# Altium integrated library TI Microcontroller MSP430 16-bit Ultra-Low Power.IntLib: 1463 symbols (part 36 of 130)
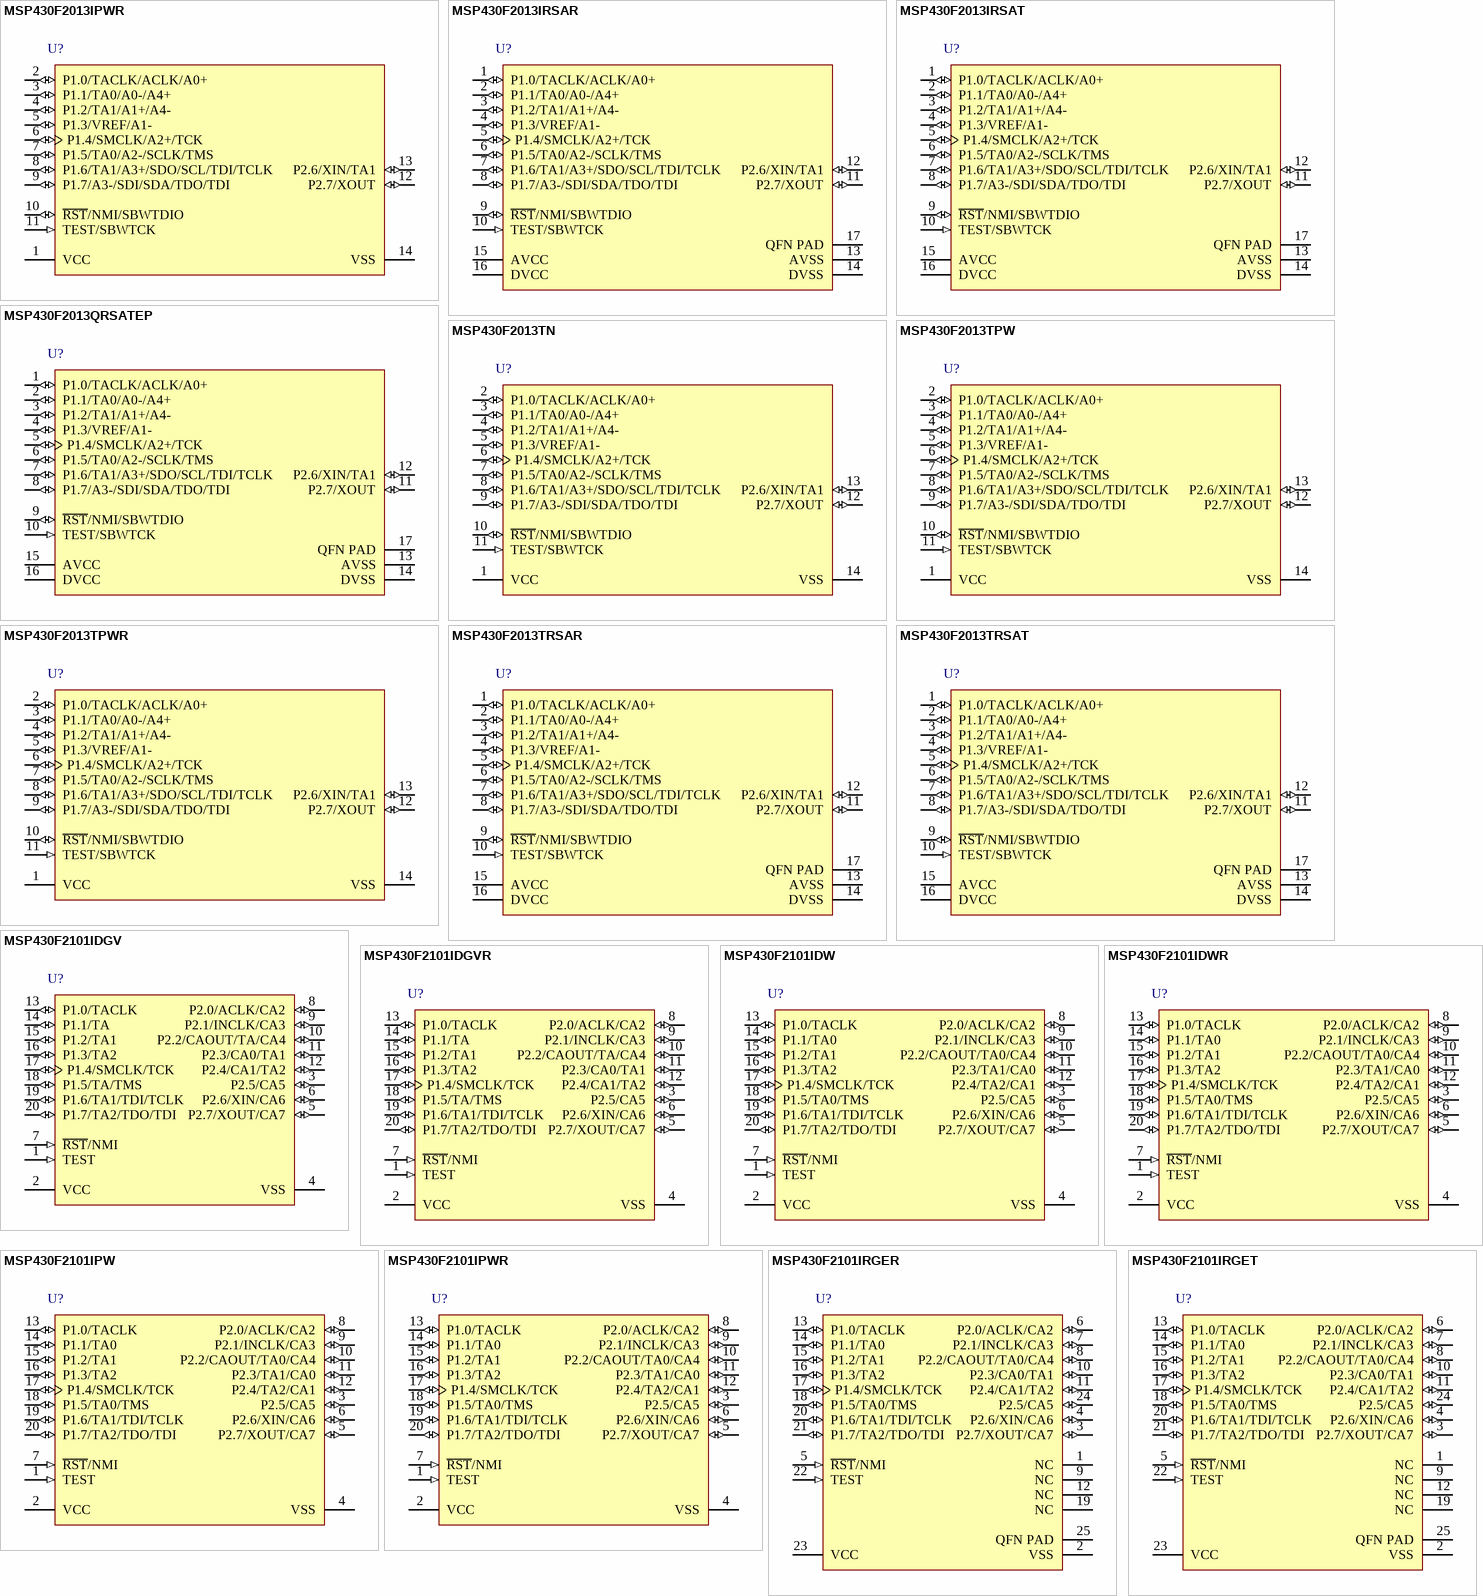
[diagram p354: symbols MSP430F2013IPWR to MSP430F2101IRGET]

## MSP430F2013TRSAT
designator U?
16 MHz Mixed Signal Microcontroller with 2 KB Flash, 128 B SRAM and 10 GPIOs, -40 to 105 degC, 16-pin QFN (RSA), Green (RoHS & no Sb/Br); Manufacturer: Texas Instruments; PartNumber: MSP430F2013TRSAT; ADC: 16-bit Sigma Delta; ADC Channels: 4; Brown Out Reset: Yes; Flash(KB): 2; Frequency(MHz): 16; GPIO: 10; SRAM(B): 128; SubFamily: 2 Series, Extended Temp; Timers - 16-bit: 1; DatasheetVersion: SLAS491H; PackageVersion: 4205141/D; PackageReference: RSA16-2700X2700TP; PackageDescription: 16-Pin Plastic Flat Pack, Body 4.00 x 4.00 mm, Pitch 0.65 mm; Supplier 1: Digi-Key; Supplier Part Number 1: MSP430F2013TRSAR-ND; Supplier 2: Newark; Supplier Part Number 2: 88K5746; Supplier 3: Mouser; Supplier Part Number 3: 595-MSP430F2013TRSAR; Eco-Plan: Green (RoHS & no Sb/Br); Temp Sensor: Yes; Watchdog: Yes; Mounting Technology: Surface Mount; Code_JEDEC: MO-220; ComponentLink1Description: Manufacturer URL; ComponentLink1URL: http://www.ti.com/; ComponentLink2Description: Datasheet; ComponentLink2URL: http://www.ti.com/general/docs/lit/getliterature.tsp?genericPartNumber=MSP430F2013&fileType=pdf; ComponentLink3Description: Package Specification; ComponentLink3URL: http://www.ti.com/litv/pdf/mpqf145c
footprint TI-RSA16-2700X2700TP_N (QFN, 16-Leads, Body 4x4mm, Pitch 0.65mm, Thermal Pad 2.7x2.7mm, IPC Medium Density)
pins: 1 P1.0/TACLK/ACLK/A0+ (io), 2 P1.1/TA0/A0-/A4+ (io), 3 P1.2/TA1/A1+/A4- (io), 4 P1.3/VREF/A1- (io), 5 P1.4/SMCLK/A2+/TCK (io), 6 P1.5/TA0/A2-/SCLK/TMS (io), 7 P1.6/TA1/A3+/SDO/SCL/TDI/TCLK (io), 8 P1.7/A3-/SDI/SDA/TDO/TDI (io), 9 ~{RST}/NMI/SBWTDIO (io), 10 TEST/SBWTCK (in), 11 P2.7/XOUT (io), 12 P2.6/XIN/TA1 (io), 13 AVSS (power) "Analog ground reference", 14 DVSS (power) "Digital ground reference", 15 AVCC (power) "Analog supply voltage", 16 DVCC (power) "Digital supply voltage", 17 QFN PAD (power) "QFN package pad. Connection to VSS is recommended."

## MSP430F2101IDGV
designator U?
16 MHz Mixed Signal Microcontroller with 1 KB Flash, 128 B SRAM and 16 GPIOs, -40 to 85 degC, 20-pin SOP (DGV), Green (RoHS & no Sb/Br); Manufacturer: Texas Instruments; PartNumber: MSP430F2101IDGV; ADC: Slope; Brown Out Reset: Yes; Flash(KB): 1; Frequency(MHz): 16; SRAM(B): 128; SubFamily: 2 Series, Extended Temp; DatasheetVersion: SLAS439F; PackageVersion: 4073251/E; PackageReference: DGV20; PackageDescription: 20-Pin Plastic Small Outline, Body 4.4 x 5 mm, Pitch 0.4 mm; Supplier 1: Digi-Key; Supplier Part Number 1: 296-19706-2-ND; Supplier 2: Digi-Key; Supplier Part Number 2: 296-19706-1-ND; Supplier 3: Digi-Key; Supplier Part Number 3: 296-19706-6-ND; Supplier 4: Farnell; Supplier Part Number 4: 1537184; Supplier 5: Newark; Supplier Part Number 5: 85K1076; Supplier 6: Mouser; Supplier Part Number 6: 595-MSP430F2013TRSAT; Comparators: Yes; Eco-Plan: Green (RoHS & no Sb/Br); GPIO: 16; Timers - 16-bit: 1; Watchdog: Yes; Mounting Technology: Surface Mount; Code_JEDEC: MO-194; ComponentLink1Description: Manufacturer URL; ComponentLink1URL: http://www.ti.com/; ComponentLink2Description: Datasheet; ComponentLink2URL: http://www.ti.com/general/docs/lit/getliterature.tsp?genericPartNumber=MSP430F2101&fileType=pdf; ComponentLink3Description: Package Specification; ComponentLink3URL: http://www.ti.com/lit/ml/mpds006c/mpds006c.pdf
footprint TI-DGV20_N (SOP, 20-Leads, Body 5x4.4mm, Pitch 0.4mm, IPC Medium Density)
pins: 1 TEST (in) "Selects test mode for JTAG pins on Port1. The device protection fuse is connected to TEST.", 2 VCC (power) "Supply voltage", 3 P2.5/CA5 (io), 4 VSS (power) "Ground reference", 5 P2.7/XOUT/CA7 (io), 6 P2.6/XIN/CA6 (io), 7 ~{RST}/NMI (in), 8 P2.0/ACLK/CA2 (io), 9 P2.1/INCLK/CA3 (io), 10 P2.2/CAOUT/TA/CA4 (io), 11 P2.3/CA0/TA1 (io), 12 P2.4/CA1/TA2 (io), 13 P1.0/TACLK (io), 14 P1.1/TA (io), 15 P1.2/TA1 (io), 16 P1.3/TA2 (io), 17 P1.4/SMCLK/TCK (io), 18 P1.5/TA/TMS (io), 19 P1.6/TA1/TDI/TCLK (io), 20 P1.7/TA2/TDO/TDI (io)

## MSP430F2101IDGVR
designator U?
16 MHz Mixed Signal Microcontroller with 1 KB Flash, 128 B SRAM and 16 GPIOs, -40 to 85 degC, 20-pin SOP (DGV), Green (RoHS & no Sb/Br); Manufacturer: Texas Instruments; PartNumber: MSP430F2101IDGVR; ADC: Slope; Brown Out Reset: Yes; Flash(KB): 1; Frequency(MHz): 16; SRAM(B): 128; SubFamily: 2 Series, Extended Temp; DatasheetVersion: SLAS439F; PackageVersion: 4073251/E; PackageReference: DGV20; PackageDescription: 20-Pin Plastic Small Outline, Body 4.4 x 5 mm, Pitch 0.4 mm; Supplier 1: Digi-Key; Supplier Part Number 1: 296-18104-ND; Supplier 2: Farnell; Supplier Part Number 2: 1753256; Supplier 3: Newark; Supplier Part Number 3: 93R5520; Supplier 4: Mouser; Supplier Part Number 4: 595-MSP430F2101IDGV; Comparators: Yes; Eco-Plan: Green (RoHS & no Sb/Br); GPIO: 16; Timers - 16-bit: 1; Watchdog: Yes; Mounting Technology: Surface Mount; Code_JEDEC: MO-194; ComponentLink1Description: Manufacturer URL; ComponentLink1URL: http://www.ti.com/; ComponentLink2Description: Datasheet; ComponentLink2URL: http://www.ti.com/general/docs/lit/getliterature.tsp?genericPartNumber=MSP430F2101&fileType=pdf; ComponentLink3Description: Package Specification; ComponentLink3URL: http://www.ti.com/lit/ml/mpds006c/mpds006c.pdf
footprint TI-DGV20_N (SOP, 20-Leads, Body 5x4.4mm, Pitch 0.4mm, IPC Medium Density)
pins: 1 TEST (in) "Selects test mode for JTAG pins on Port1. The device protection fuse is connected to TEST.", 2 VCC (power) "Supply voltage", 3 P2.5/CA5 (io), 4 VSS (power) "Ground reference", 5 P2.7/XOUT/CA7 (io), 6 P2.6/XIN/CA6 (io), 7 ~{RST}/NMI (in), 8 P2.0/ACLK/CA2 (io), 9 P2.1/INCLK/CA3 (io), 10 P2.2/CAOUT/TA/CA4 (io), 11 P2.3/CA0/TA1 (io), 12 P2.4/CA1/TA2 (io), 13 P1.0/TACLK (io), 14 P1.1/TA (io), 15 P1.2/TA1 (io), 16 P1.3/TA2 (io), 17 P1.4/SMCLK/TCK (io), 18 P1.5/TA/TMS (io), 19 P1.6/TA1/TDI/TCLK (io), 20 P1.7/TA2/TDO/TDI (io)

## MSP430F2101IDW
designator U?
16 MHz Mixed Signal Microcontroller with 1 KB Flash, 128 B SRAM and 16 GPIOs, -40 to 85 degC, 20-pin SOIC (DW), Green (RoHS & no Sb/Br); Manufacturer: Texas Instruments; PartNumber: MSP430F2101IDW; ADC: Slope; Brown Out Reset: Yes; Flash(KB): 1; Frequency(MHz): 16; SRAM(B): 128; SubFamily: 2 Series, Extended Temp; DatasheetVersion: SLAS439F; PackageVersion: 4040000-4/G; PackageReference: DW20; PackageDescription: 20-Pin Plastic Small Outline, Body 12.8 x 7.5 mm, Pitch 1.27 mm; Supplier 1: Digi-Key; Supplier Part Number 1: MSP430F2101IDGVR-ND; Supplier 2: Newark; Supplier Part Number 2: 43K4006; Supplier 3: Mouser; Supplier Part Number 3: 595-MSP430F2101IDGVR; Comparators: Yes; Eco-Plan: Green (RoHS & no Sb/Br); GPIO: 16; Timers - 16-bit: 1; Watchdog: Yes; Mounting Technology: Surface Mount; Code_JEDEC: MO-013; ComponentLink1Description: Manufacturer URL; ComponentLink1URL: http://www.ti.com/; ComponentLink2Description: Datasheet; ComponentLink2URL: http://www.ti.com/general/docs/lit/getliterature.tsp?genericPartNumber=MSP430F2101&fileType=pdf; ComponentLink3Description: Package Specification; ComponentLink3URL: http://www.ti.com/lit/ml/mpds173a/mpds173a.pdf
footprint TI-DW20_N (SOIC, 20-Leads, Body 12.8x7.5mm, Pitch 1.27mm, IPC Medium Density)
pins: 1 TEST (in) "Selects test mode for JTAG pins on Port1. The device protection fuse is connected to TEST.", 2 VCC (power) "Supply voltage", 3 P2.5/CA5 (io), 4 VSS (power) "Ground reference", 5 P2.7/XOUT/CA7 (io), 6 P2.6/XIN/CA6 (io), 7 ~{RST}/NMI (in), 8 P2.0/ACLK/CA2 (io), 9 P2.1/INCLK/CA3 (io), 10 P2.2/CAOUT/TA0/CA4 (io), 11 P2.3/TA1/CA0 (io), 12 P2.4/TA2/CA1 (io), 13 P1.0/TACLK (io), 14 P1.1/TA0 (io), 15 P1.2/TA1 (io), 16 P1.3/TA2 (io), 17 P1.4/SMCLK/TCK (io), 18 P1.5/TA0/TMS (io), 19 P1.6/TA1/TDI/TCLK (io), 20 P1.7/TA2/TDO/TDI (io)

## MSP430F2101IDWR
designator U?
16 MHz Mixed Signal Microcontroller with 1 KB Flash, 128 B SRAM and 16 GPIOs, -40 to 85 degC, 20-pin SOIC (DW), Green (RoHS & no Sb/Br); Manufacturer: Texas Instruments; PartNumber: MSP430F2101IDWR; ADC: Slope; Brown Out Reset: Yes; Flash(KB): 1; Frequency(MHz): 16; SRAM(B): 128; SubFamily: 2 Series, Extended Temp; DatasheetVersion: SLAS439F; PackageVersion: 4040000-4/G; PackageReference: DW20; PackageDescription: 20-Pin Plastic Small Outline, Body 12.8 x 7.5 mm, Pitch 1.27 mm; Supplier 1: Digi-Key; Supplier Part Number 1: 296-33417-5-ND; Supplier 2: Farnell; Supplier Part Number 2: 1753257; Supplier 3: Newark; Supplier Part Number 3: 93R5521; Supplier 4: Mouser; Supplier Part Number 4: 595-MSP430F2101IDW; Comparators: Yes; Eco-Plan: Green (RoHS & no Sb/Br); GPIO: 16; Timers - 16-bit: 1; Watchdog: Yes; Mounting Technology: Surface Mount; Code_JEDEC: MO-013; ComponentLink1Description: Manufacturer URL; ComponentLink1URL: http://www.ti.com/; ComponentLink2Description: Datasheet; ComponentLink2URL: http://www.ti.com/general/docs/lit/getliterature.tsp?genericPartNumber=MSP430F2101&fileType=pdf; ComponentLink3Description: Package Specification; ComponentLink3URL: http://www.ti.com/lit/ml/mpds173a/mpds173a.pdf
footprint TI-DW20_N (SOIC, 20-Leads, Body 12.8x7.5mm, Pitch 1.27mm, IPC Medium Density)
pins: 1 TEST (in) "Selects test mode for JTAG pins on Port1. The device protection fuse is connected to TEST.", 2 VCC (power) "Supply voltage", 3 P2.5/CA5 (io), 4 VSS (power) "Ground reference", 5 P2.7/XOUT/CA7 (io), 6 P2.6/XIN/CA6 (io), 7 ~{RST}/NMI (in), 8 P2.0/ACLK/CA2 (io), 9 P2.1/INCLK/CA3 (io), 10 P2.2/CAOUT/TA0/CA4 (io), 11 P2.3/TA1/CA0 (io), 12 P2.4/TA2/CA1 (io), 13 P1.0/TACLK (io), 14 P1.1/TA0 (io), 15 P1.2/TA1 (io), 16 P1.3/TA2 (io), 17 P1.4/SMCLK/TCK (io), 18 P1.5/TA0/TMS (io), 19 P1.6/TA1/TDI/TCLK (io), 20 P1.7/TA2/TDO/TDI (io)

## MSP430F2101IPW
designator U?
16 MHz Mixed Signal Microcontroller with 1 KB Flash, 128 B SRAM and 16 GPIOs, -40 to 85 degC, 20-pin SOP (PW), Green (RoHS & no Sb/Br); Manufacturer: Texas Instruments; PartNumber: MSP430F2101IPW; ADC: Slope; Brown Out Reset: Yes; Flash(KB): 1; Frequency(MHz): 16; SRAM(B): 128; SubFamily: 2 Series, Extended Temp; DatasheetVersion: SLAS439F; PackageVersion: 4040064-5/G; PackageReference: PW20; PackageDescription: 20-Pin Plastic Small Outline, Body 6.5 x 4.4 mm, 0.65 mm Pitch; Supplier 1: Digi-Key; Supplier Part Number 1: 296-18105-2-ND; Supplier 2: Digi-Key; Supplier Part Number 2: 296-18105-1-ND; Supplier 3: Digi-Key; Supplier Part Number 3: 296-18105-6-ND; Supplier 4: Farnell; Supplier Part Number 4: 1847441; Supplier 5: Newark; Supplier Part Number 5: 82R7743; Supplier 6: Newark; Supplier Part Number 6: 43K4008; Supplier 7: Mouser; Supplier Part Number 7: 595-MSP430F2101IDWR; Comparators: Yes; Eco-Plan: Green (RoHS & no Sb/Br); GPIO: 16; Timers - 16-bit: 1; Watchdog: Yes; Mounting Technology: Surface Mount; Code_JEDEC: MO-153; ComponentLink1Description: Manufacturer URL; ComponentLink1URL: http://www.ti.com/; ComponentLink2Description: Datasheet; ComponentLink2URL: http://www.ti.com/general/docs/lit/getliterature.tsp?genericPartNumber=MSP430F2101&fileType=pdf; ComponentLink3Description: Package Specification; ComponentLink3URL: http://www.ti.com.cn/cn/lit/ml/mpds362/mpds362.pdf
footprint TI-PW20_N (SOP, 20-Leads, Body 6.5x4.4mm, Pitch 0.65mm, IPC Medium Density)
pins: 1 TEST (in) "Selects test mode for JTAG pins on Port1. The device protection fuse is connected to TEST.", 2 VCC (power) "Supply voltage", 3 P2.5/CA5 (io), 4 VSS (power) "Ground reference", 5 P2.7/XOUT/CA7 (io), 6 P2.6/XIN/CA6 (io), 7 ~{RST}/NMI (in), 8 P2.0/ACLK/CA2 (io), 9 P2.1/INCLK/CA3 (io), 10 P2.2/CAOUT/TA0/CA4 (io), 11 P2.3/TA1/CA0 (io), 12 P2.4/TA2/CA1 (io), 13 P1.0/TACLK (io), 14 P1.1/TA0 (io), 15 P1.2/TA1 (io), 16 P1.3/TA2 (io), 17 P1.4/SMCLK/TCK (io), 18 P1.5/TA0/TMS (io), 19 P1.6/TA1/TDI/TCLK (io), 20 P1.7/TA2/TDO/TDI (io)

## MSP430F2101IPWR
designator U?
16 MHz Mixed Signal Microcontroller with 1 KB Flash, 128 B SRAM and 16 GPIOs, -40 to 85 degC, 20-pin SOP (PW), Green (RoHS & no Sb/Br); Manufacturer: Texas Instruments; PartNumber: MSP430F2101IPWR; ADC: Slope; Brown Out Reset: Yes; Flash(KB): 1; Frequency(MHz): 16; SRAM(B): 128; SubFamily: 2 Series, Extended Temp; DatasheetVersion: SLAS439F; PackageVersion: 4040064-5/G; PackageReference: PW20; PackageDescription: 20-Pin Plastic Small Outline, Body 6.5 x 4.4 mm, 0.65 mm Pitch; Supplier 1: Digi-Key; Supplier Part Number 1: 296-25476-5-ND; Supplier 2: Farnell; Supplier Part Number 2: 1649407; Supplier 3: Newark; Supplier Part Number 3: 43K4009; Supplier 4: Mouser; Supplier Part Number 4: 595-MSP430F2101IPW; Comparators: Yes; Eco-Plan: Green (RoHS & no Sb/Br); GPIO: 16; Timers - 16-bit: 1; Watchdog: Yes; Mounting Technology: Surface Mount; Code_JEDEC: MO-153; ComponentLink1Description: Manufacturer URL; ComponentLink1URL: http://www.ti.com/; ComponentLink2Description: Datasheet; ComponentLink2URL: http://www.ti.com/general/docs/lit/getliterature.tsp?genericPartNumber=MSP430F2101&fileType=pdf; ComponentLink3Description: Package Specification; ComponentLink3URL: http://www.ti.com.cn/cn/lit/ml/mpds362/mpds362.pdf
footprint TI-PW20_N (SOP, 20-Leads, Body 6.5x4.4mm, Pitch 0.65mm, IPC Medium Density)
pins: 1 TEST (in) "Selects test mode for JTAG pins on Port1. The device protection fuse is connected to TEST.", 2 VCC (power) "Supply voltage", 3 P2.5/CA5 (io), 4 VSS (power) "Ground reference", 5 P2.7/XOUT/CA7 (io), 6 P2.6/XIN/CA6 (io), 7 ~{RST}/NMI (in), 8 P2.0/ACLK/CA2 (io), 9 P2.1/INCLK/CA3 (io), 10 P2.2/CAOUT/TA0/CA4 (io), 11 P2.3/TA1/CA0 (io), 12 P2.4/TA2/CA1 (io), 13 P1.0/TACLK (io), 14 P1.1/TA0 (io), 15 P1.2/TA1 (io), 16 P1.3/TA2 (io), 17 P1.4/SMCLK/TCK (io), 18 P1.5/TA0/TMS (io), 19 P1.6/TA1/TDI/TCLK (io), 20 P1.7/TA2/TDO/TDI (io)

## MSP430F2101IRGER
designator U?
16 MHz Mixed Signal Microcontroller with 1 KB Flash, 128 B SRAM and 16 GPIOs, -40 to 85 degC, 24-pin QFN (RGE), Green (RoHS & no Sb/Br); Manufacturer: Texas Instruments; PartNumber: MSP430F2101IRGER; ADC: Slope; Brown Out Reset: Yes; Flash(KB): 1; Frequency(MHz): 16; SRAM(B): 128; SubFamily: 2 Series, Extended Temp; DatasheetVersion: SLAS439F; PackageVersion: 4204104/G; PackageReference: RGE24-2450X2450TP; PackageDescription: 24-Pin Plastic Flat Pack, Body 4 x 4 mm, 0.5 mm Pitch; Supplier 1: Digi-Key; Supplier Part Number 1: 296-18106-2-ND; Supplier 2: Digi-Key; Supplier Part Number 2: 296-18106-1-ND; Supplier 3: Digi-Key; Supplier Part Number 3: 296-18106-6-ND; Supplier 4: Newark; Supplier Part Number 4: 43K4010; Supplier 5: Mouser; Supplier Part Number 5: 595-MSP430F2101IPWR; Comparators: Yes; Eco-Plan: Green (RoHS & no Sb/Br); GPIO: 16; Timers - 16-bit: 1; Watchdog: Yes; Mounting Technology: Surface Mount; Code_JEDEC: MO-220; ComponentLink1Description: Manufacturer URL; ComponentLink1URL: http://www.ti.com/; ComponentLink2Description: Datasheet; ComponentLink2URL: http://www.ti.com/general/docs/lit/getliterature.tsp?genericPartNumber=MSP430F2101&fileType=pdf; ComponentLink3Description: Package Specification; ComponentLink3URL: http://www.ti.com/litv/pdf/mpqf124f
footprint TI-RGE24-2450X2450TP_N (QFN, 24-Leads, Body 4x4mm, Pitch 0.5mm, Thermal Pad 2.45x2.45mm, IPC Medium Density)
pins: 1 NC "Not internally connected", 2 VSS (power) "Ground reference", 3 P2.7/XOUT/CA7 (io), 4 P2.6/XIN/CA6 (io), 5 ~{RST}/NMI (in), 6 P2.0/ACLK/CA2 (io), 7 P2.1/INCLK/CA3 (io), 8 P2.2/CAOUT/TA0/CA4 (io), 9 NC "Not internally connected", 10 P2.3/CA0/TA1 (io), 11 P2.4/CA1/TA2 (io), 12 NC "Not internally connected", 13 P1.0/TACLK (io), 14 P1.1/TA0 (io), 15 P1.2/TA1 (io), 16 P1.3/TA2 (io), 17 P1.4/SMCLK/TCK (io), 18 P1.5/TA0/TMS (io), 19 NC "Not internally connected", 20 P1.6/TA1/TDI/TCLK (io), 21 P1.7/TA2/TDO/TDI (io), 22 TEST (in) "Selects test mode for JTAG pins on Port1. The device protection fuse is connected to TEST.", 23 VCC (power) "Supply voltage", 24 P2.5/CA5 (io), 25 QFN PAD (power) "QFN package thermal pad. Connect to VSS."

## MSP430F2101IRGET
designator U?
16 MHz Mixed Signal Microcontroller with 1 KB Flash, 128 B SRAM and 16 GPIOs, -40 to 85 degC, 24-pin QFN (RGE), Green (RoHS & no Sb/Br); Manufacturer: Texas Instruments; PartNumber: MSP430F2101IRGET; ADC: Slope; Brown Out Reset: Yes; Flash(KB): 1; Frequency(MHz): 16; SRAM(B): 128; SubFamily: 2 Series, Extended Temp; DatasheetVersion: SLAS439F; PackageVersion: 4204104/G; PackageReference: RGE24-2450X2450TP; PackageDescription: 24-Pin Plastic Flat Pack, Body 4 x 4 mm, 0.5 mm Pitch; Supplier 1: Digi-Key; Supplier Part Number 1: MSP430F2101IRGER-ND; Supplier 2: Newark; Supplier Part Number 2: 43K4011; Supplier 3: Mouser; Supplier Part Number 3: 595-MSP430F2101IRGER; Comparators: Yes; Eco-Plan: Green (RoHS & no Sb/Br); GPIO: 16; Timers - 16-bit: 1; Watchdog: Yes; Mounting Technology: Surface Mount; Code_JEDEC: MO-220; ComponentLink1Description: Manufacturer URL; ComponentLink1URL: http://www.ti.com/; ComponentLink2Description: Datasheet; ComponentLink2URL: http://www.ti.com/general/docs/lit/getliterature.tsp?genericPartNumber=MSP430F2101&fileType=pdf; ComponentLink3Description: Package Specification; ComponentLink3URL: http://www.ti.com/litv/pdf/mpqf124f
footprint TI-RGE24-2450X2450TP_N (QFN, 24-Leads, Body 4x4mm, Pitch 0.5mm, Thermal Pad 2.45x2.45mm, IPC Medium Density)
pins: 1 NC "Not internally connected", 2 VSS (power) "Ground reference", 3 P2.7/XOUT/CA7 (io), 4 P2.6/XIN/CA6 (io), 5 ~{RST}/NMI (in), 6 P2.0/ACLK/CA2 (io), 7 P2.1/INCLK/CA3 (io), 8 P2.2/CAOUT/TA0/CA4 (io), 9 NC "Not internally connected", 10 P2.3/CA0/TA1 (io), 11 P2.4/CA1/TA2 (io), 12 NC "Not internally connected", 13 P1.0/TACLK (io), 14 P1.1/TA0 (io), 15 P1.2/TA1 (io), 16 P1.3/TA2 (io), 17 P1.4/SMCLK/TCK (io), 18 P1.5/TA0/TMS (io), 19 NC "Not internally connected", 20 P1.6/TA1/TDI/TCLK (io), 21 P1.7/TA2/TDO/TDI (io), 22 TEST (in) "Selects test mode for JTAG pins on Port1. The device protection fuse is connected to TEST.", 23 VCC (power) "Supply voltage", 24 P2.5/CA5 (io), 25 QFN PAD (power) "QFN package thermal pad. Connect to VSS."

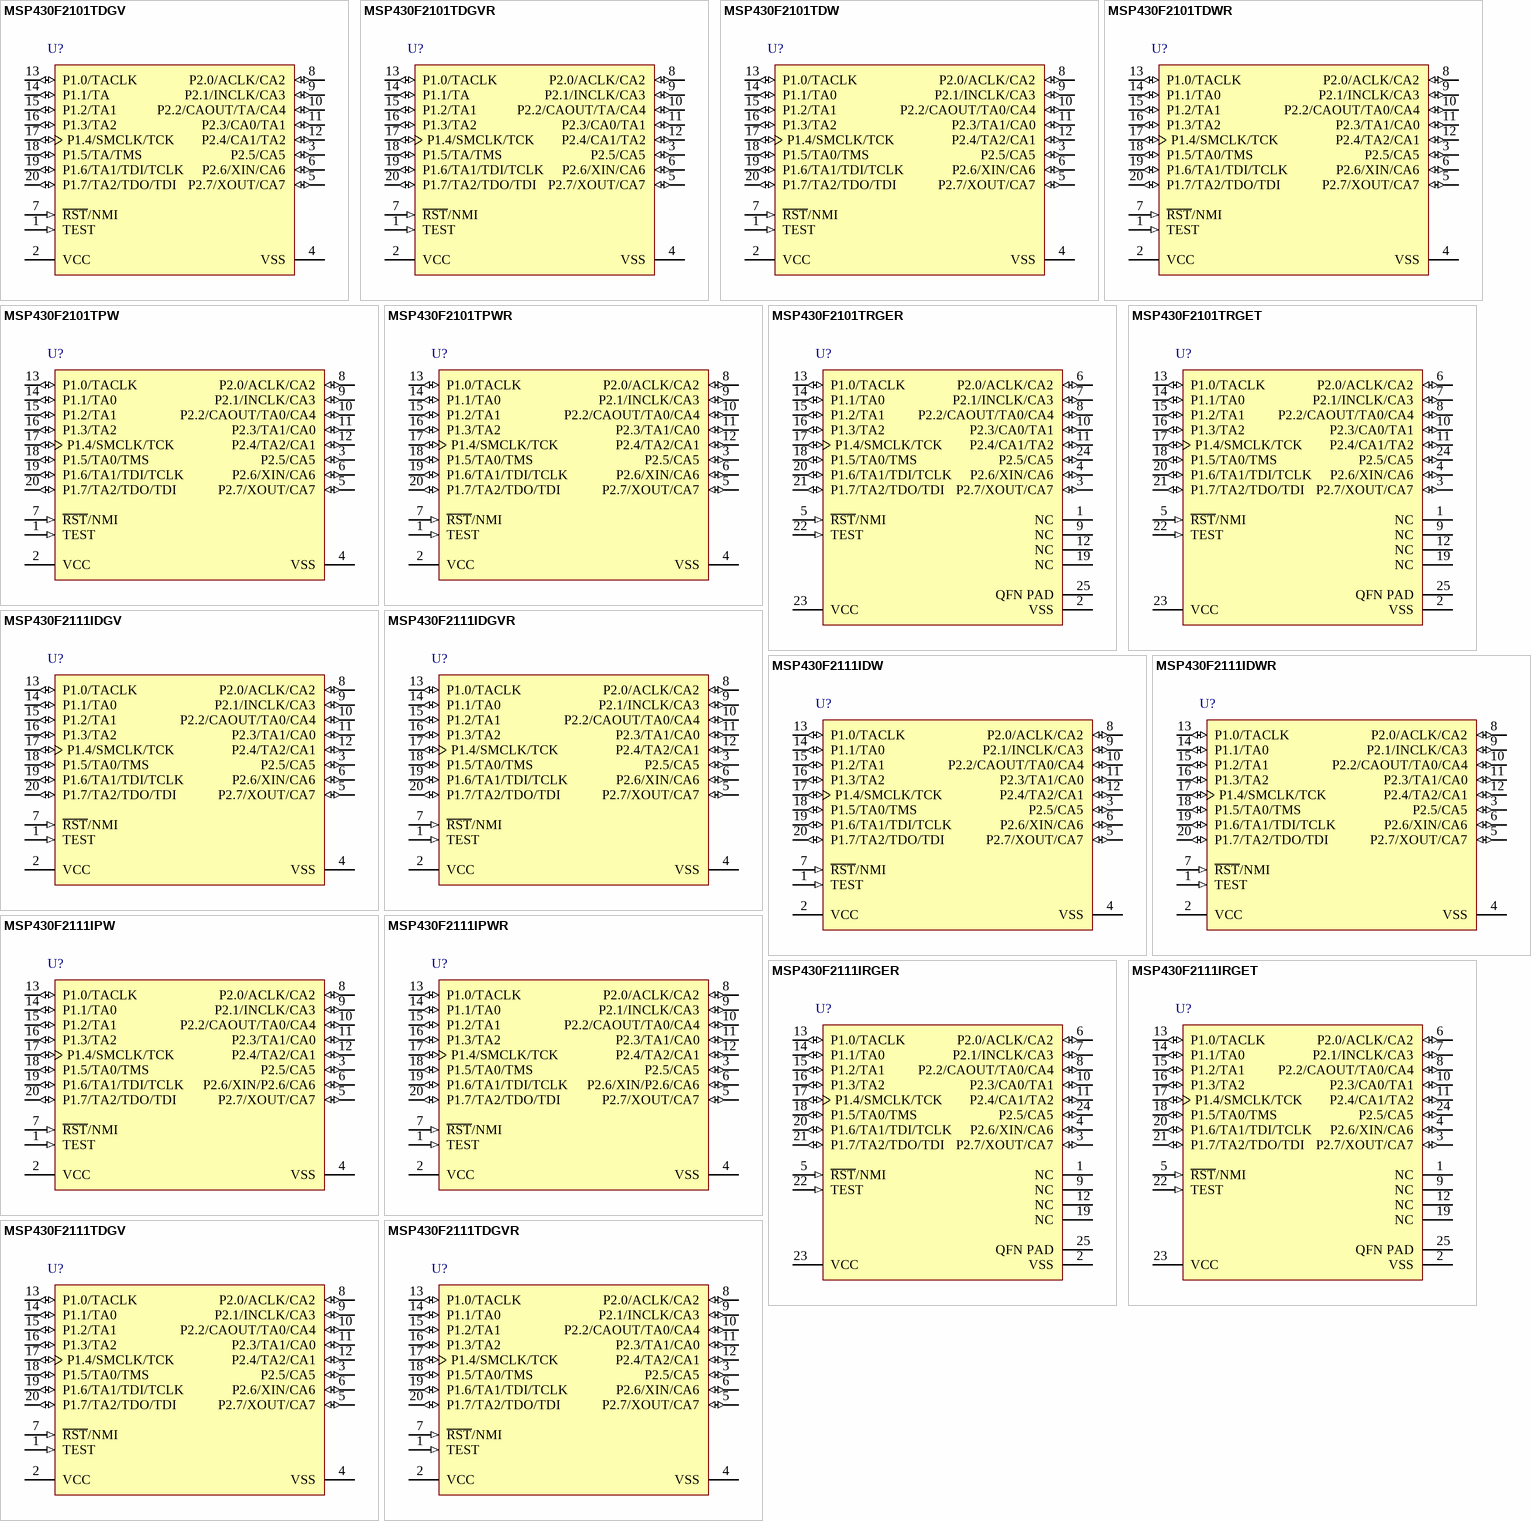
[diagram p52: symbols MSP430F2101TDGV to MSP430F2111TDGVR]

## MSP430F2101TDGV
designator U?
16 MHz Mixed Signal Microcontroller with 1 KB Flash, 128 B SRAM and 16 GPIOs, -40 to 105 degC, 20-pin SOP (DGV), Green (RoHS & no Sb/Br); Manufacturer: Texas Instruments; PartNumber: MSP430F2101TDGV; ADC: Slope; Brown Out Reset: Yes; Flash(KB): 1; Frequency(MHz): 16; SRAM(B): 128; SubFamily: 2 Series, Extended Temp; DatasheetVersion: SLAS439F; PackageVersion: 4073251/E; PackageReference: DGV20; PackageDescription: 20-Pin Plastic Small Outline, Body 4.4 x 5 mm, Pitch 0.4 mm; Supplier 1: Digi-Key; Supplier Part Number 1: 296-18107-2-ND; Supplier 2: Digi-Key; Supplier Part Number 2: 296-18107-1-ND; Supplier 3: Digi-Key; Supplier Part Number 3: 296-18107-6-ND; Supplier 4: Farnell; Supplier Part Number 4: 1649408; Supplier 5: Newark; Supplier Part Number 5: 43K4012; Supplier 6: Newark; Supplier Part Number 6: 15P0269; Supplier 7: Mouser; Supplier Part Number 7: 595-MSP430F2101IRGET; Comparators: Yes; Eco-Plan: Green (RoHS & no Sb/Br); GPIO: 16; Timers - 16-bit: 1; Watchdog: Yes; Mounting Technology: Surface Mount; Code_JEDEC: MO-194; ComponentLink1Description: Manufacturer URL; ComponentLink1URL: http://www.ti.com/; ComponentLink2Description: Datasheet; ComponentLink2URL: http://www.ti.com/general/docs/lit/getliterature.tsp?genericPartNumber=MSP430F2101&fileType=pdf; ComponentLink3Description: Package Specification; ComponentLink3URL: http://www.ti.com/lit/ml/mpds006c/mpds006c.pdf
footprint TI-DGV20_N (SOP, 20-Leads, Body 5x4.4mm, Pitch 0.4mm, IPC Medium Density)
pins: 1 TEST (in) "Selects test mode for JTAG pins on Port1. The device protection fuse is connected to TEST.", 2 VCC (power) "Supply voltage", 3 P2.5/CA5 (io), 4 VSS (power) "Ground reference", 5 P2.7/XOUT/CA7 (io), 6 P2.6/XIN/CA6 (io), 7 ~{RST}/NMI (in), 8 P2.0/ACLK/CA2 (io), 9 P2.1/INCLK/CA3 (io), 10 P2.2/CAOUT/TA/CA4 (io), 11 P2.3/CA0/TA1 (io), 12 P2.4/CA1/TA2 (io), 13 P1.0/TACLK (io), 14 P1.1/TA (io), 15 P1.2/TA1 (io), 16 P1.3/TA2 (io), 17 P1.4/SMCLK/TCK (io), 18 P1.5/TA/TMS (io), 19 P1.6/TA1/TDI/TCLK (io), 20 P1.7/TA2/TDO/TDI (io)

## MSP430F2101TDGVR
designator U?
16 MHz Mixed Signal Microcontroller with 1 KB Flash, 128 B SRAM and 16 GPIOs, -40 to 105 degC, 20-pin SOP (DGV), Green (RoHS & no Sb/Br); Manufacturer: Texas Instruments; PartNumber: MSP430F2101TDGVR; ADC: Slope; Brown Out Reset: Yes; Flash(KB): 1; Frequency(MHz): 16; SRAM(B): 128; SubFamily: 2 Series, Extended Temp; DatasheetVersion: SLAS439F; PackageVersion: 4073251/E; PackageReference: DGV20; PackageDescription: 20-Pin Plastic Small Outline, Body 4.4 x 5 mm, Pitch 0.4 mm; Supplier 1: Digi-Key; Supplier Part Number 1: 296-33418-5-ND; Supplier 2: Farnell; Supplier Part Number 2: 1753258; Supplier 3: Newark; Supplier Part Number 3: 93R5522; Supplier 4: Mouser; Supplier Part Number 4: 595-MSP430F2101TDGV; Comparators: Yes; Eco-Plan: Green (RoHS & no Sb/Br); GPIO: 16; Timers - 16-bit: 1; Watchdog: Yes; Mounting Technology: Surface Mount; Code_JEDEC: MO-194; ComponentLink1Description: Manufacturer URL; ComponentLink1URL: http://www.ti.com/; ComponentLink2Description: Datasheet; ComponentLink2URL: http://www.ti.com/general/docs/lit/getliterature.tsp?genericPartNumber=MSP430F2101&fileType=pdf; ComponentLink3Description: Package Specification; ComponentLink3URL: http://www.ti.com/lit/ml/mpds006c/mpds006c.pdf
footprint TI-DGV20_N (SOP, 20-Leads, Body 5x4.4mm, Pitch 0.4mm, IPC Medium Density)
pins: 1 TEST (in) "Selects test mode for JTAG pins on Port1. The device protection fuse is connected to TEST.", 2 VCC (power) "Supply voltage", 3 P2.5/CA5 (io), 4 VSS (power) "Ground reference", 5 P2.7/XOUT/CA7 (io), 6 P2.6/XIN/CA6 (io), 7 ~{RST}/NMI (in), 8 P2.0/ACLK/CA2 (io), 9 P2.1/INCLK/CA3 (io), 10 P2.2/CAOUT/TA/CA4 (io), 11 P2.3/CA0/TA1 (io), 12 P2.4/CA1/TA2 (io), 13 P1.0/TACLK (io), 14 P1.1/TA (io), 15 P1.2/TA1 (io), 16 P1.3/TA2 (io), 17 P1.4/SMCLK/TCK (io), 18 P1.5/TA/TMS (io), 19 P1.6/TA1/TDI/TCLK (io), 20 P1.7/TA2/TDO/TDI (io)

## MSP430F2101TDW
designator U?
16 MHz Mixed Signal Microcontroller with 1 KB Flash, 128 B SRAM and 16 GPIOs, -40 to 105 degC, 20-pin SOIC (DW), Green (RoHS & no Sb/Br); Manufacturer: Texas Instruments; PartNumber: MSP430F2101TDW; ADC: Slope; Brown Out Reset: Yes; Flash(KB): 1; Frequency(MHz): 16; SRAM(B): 128; SubFamily: 2 Series, Extended Temp; DatasheetVersion: SLAS439F; PackageVersion: 4040000-4/G; PackageReference: DW20; PackageDescription: 20-Pin Plastic Small Outline, Body 12.8 x 7.5 mm, Pitch 1.27 mm; Supplier 1: Digi-Key; Supplier Part Number 1: 296-20749-2-ND; Supplier 2: Digi-Key; Supplier Part Number 2: 296-20749-1-ND; Supplier 3: Digi-Key; Supplier Part Number 3: 296-20749-6-ND; Supplier 4: Mouser; Supplier Part Number 4: 595-MSP430F2101TDGVR; Comparators: Yes; Eco-Plan: Green (RoHS & no Sb/Br); GPIO: 16; Timers - 16-bit: 1; Watchdog: Yes; Mounting Technology: Surface Mount; Code_JEDEC: MO-013; ComponentLink1Description: Manufacturer URL; ComponentLink1URL: http://www.ti.com/; ComponentLink2Description: Datasheet; ComponentLink2URL: http://www.ti.com/general/docs/lit/getliterature.tsp?genericPartNumber=MSP430F2101&fileType=pdf; ComponentLink3Description: Package Specification; ComponentLink3URL: http://www.ti.com/lit/ml/mpds173a/mpds173a.pdf
footprint TI-DW20_N (SOIC, 20-Leads, Body 12.8x7.5mm, Pitch 1.27mm, IPC Medium Density)
pins: 1 TEST (in) "Selects test mode for JTAG pins on Port1. The device protection fuse is connected to TEST.", 2 VCC (power) "Supply voltage", 3 P2.5/CA5 (io), 4 VSS (power) "Ground reference", 5 P2.7/XOUT/CA7 (io), 6 P2.6/XIN/CA6 (io), 7 ~{RST}/NMI (in), 8 P2.0/ACLK/CA2 (io), 9 P2.1/INCLK/CA3 (io), 10 P2.2/CAOUT/TA0/CA4 (io), 11 P2.3/TA1/CA0 (io), 12 P2.4/TA2/CA1 (io), 13 P1.0/TACLK (io), 14 P1.1/TA0 (io), 15 P1.2/TA1 (io), 16 P1.3/TA2 (io), 17 P1.4/SMCLK/TCK (io), 18 P1.5/TA0/TMS (io), 19 P1.6/TA1/TDI/TCLK (io), 20 P1.7/TA2/TDO/TDI (io)

## MSP430F2101TDWR
designator U?
16 MHz Mixed Signal Microcontroller with 1 KB Flash, 128 B SRAM and 16 GPIOs, -40 to 105 degC, 20-pin SOIC (DW), Green (RoHS & no Sb/Br); Manufacturer: Texas Instruments; PartNumber: MSP430F2101TDWR; ADC: Slope; Brown Out Reset: Yes; Flash(KB): 1; Frequency(MHz): 16; SRAM(B): 128; SubFamily: 2 Series, Extended Temp; DatasheetVersion: SLAS439F; PackageVersion: 4040000-4/G; PackageReference: DW20; PackageDescription: 20-Pin Plastic Small Outline, Body 12.8 x 7.5 mm, Pitch 1.27 mm; Supplier 1: Digi-Key; Supplier Part Number 1: 296-33419-5-ND; Supplier 2: Farnell; Supplier Part Number 2: 1753259; Supplier 3: Newark; Supplier Part Number 3: 93R5523; Supplier 4: Mouser; Supplier Part Number 4: 595-MSP430F2101TDW; Comparators: Yes; Eco-Plan: Green (RoHS & no Sb/Br); GPIO: 16; Timers - 16-bit: 1; Watchdog: Yes; Mounting Technology: Surface Mount; Code_JEDEC: MO-013; ComponentLink1Description: Manufacturer URL; ComponentLink1URL: http://www.ti.com/; ComponentLink2Description: Datasheet; ComponentLink2URL: http://www.ti.com/general/docs/lit/getliterature.tsp?genericPartNumber=MSP430F2101&fileType=pdf; ComponentLink3Description: Package Specification; ComponentLink3URL: http://www.ti.com/lit/ml/mpds173a/mpds173a.pdf
footprint TI-DW20_N (SOIC, 20-Leads, Body 12.8x7.5mm, Pitch 1.27mm, IPC Medium Density)
pins: 1 TEST (in) "Selects test mode for JTAG pins on Port1. The device protection fuse is connected to TEST.", 2 VCC (power) "Supply voltage", 3 P2.5/CA5 (io), 4 VSS (power) "Ground reference", 5 P2.7/XOUT/CA7 (io), 6 P2.6/XIN/CA6 (io), 7 ~{RST}/NMI (in), 8 P2.0/ACLK/CA2 (io), 9 P2.1/INCLK/CA3 (io), 10 P2.2/CAOUT/TA0/CA4 (io), 11 P2.3/TA1/CA0 (io), 12 P2.4/TA2/CA1 (io), 13 P1.0/TACLK (io), 14 P1.1/TA0 (io), 15 P1.2/TA1 (io), 16 P1.3/TA2 (io), 17 P1.4/SMCLK/TCK (io), 18 P1.5/TA0/TMS (io), 19 P1.6/TA1/TDI/TCLK (io), 20 P1.7/TA2/TDO/TDI (io)

## MSP430F2101TPW
designator U?
16 MHz Mixed Signal Microcontroller with 1 KB Flash, 128 B SRAM and 16 GPIOs, -40 to 105 degC, 20-pin SOP (PW), Green (RoHS & no Sb/Br); Manufacturer: Texas Instruments; PartNumber: MSP430F2101TPW; ADC: Slope; Brown Out Reset: Yes; Flash(KB): 1; Frequency(MHz): 16; SRAM(B): 128; SubFamily: 2 Series, Extended Temp; DatasheetVersion: SLAS439F; PackageVersion: 4040064-5/G; PackageReference: PW20; PackageDescription: 20-Pin Plastic Small Outline, Body 6.5 x 4.4 mm, 0.65 mm Pitch; Supplier 1: Digi-Key; Supplier Part Number 1: 296-20750-2-ND; Supplier 2: Digi-Key; Supplier Part Number 2: 296-20750-1-ND; Supplier 3: Digi-Key; Supplier Part Number 3: 296-20750-6-ND; Supplier 4: Mouser; Supplier Part Number 4: 595-MSP430F2101TDWR; Comparators: Yes; Eco-Plan: Green (RoHS & no Sb/Br); GPIO: 16; Timers - 16-bit: 1; Watchdog: Yes; Mounting Technology: Surface Mount; Code_JEDEC: MO-153; ComponentLink1Description: Manufacturer URL; ComponentLink1URL: http://www.ti.com/; ComponentLink2Description: Datasheet; ComponentLink2URL: http://www.ti.com/general/docs/lit/getliterature.tsp?genericPartNumber=MSP430F2101&fileType=pdf; ComponentLink3Description: Package Specification; ComponentLink3URL: http://www.ti.com.cn/cn/lit/ml/mpds362/mpds362.pdf
footprint TI-PW20_N (SOP, 20-Leads, Body 6.5x4.4mm, Pitch 0.65mm, IPC Medium Density)
pins: 1 TEST (in) "Selects test mode for JTAG pins on Port1. The device protection fuse is connected to TEST.", 2 VCC (power) "Supply voltage", 3 P2.5/CA5 (io), 4 VSS (power) "Ground reference", 5 P2.7/XOUT/CA7 (io), 6 P2.6/XIN/CA6 (io), 7 ~{RST}/NMI (in), 8 P2.0/ACLK/CA2 (io), 9 P2.1/INCLK/CA3 (io), 10 P2.2/CAOUT/TA0/CA4 (io), 11 P2.3/TA1/CA0 (io), 12 P2.4/TA2/CA1 (io), 13 P1.0/TACLK (io), 14 P1.1/TA0 (io), 15 P1.2/TA1 (io), 16 P1.3/TA2 (io), 17 P1.4/SMCLK/TCK (io), 18 P1.5/TA0/TMS (io), 19 P1.6/TA1/TDI/TCLK (io), 20 P1.7/TA2/TDO/TDI (io)

## MSP430F2101TPWR
designator U?
16 MHz Mixed Signal Microcontroller with 1 KB Flash, 128 B SRAM and 16 GPIOs, -40 to 105 degC, 20-pin SOP (PW), Green (RoHS & no Sb/Br); Manufacturer: Texas Instruments; PartNumber: MSP430F2101TPWR; ADC: Slope; Brown Out Reset: Yes; Flash(KB): 1; Frequency(MHz): 16; SRAM(B): 128; SubFamily: 2 Series, Extended Temp; DatasheetVersion: SLAS439F; PackageVersion: 4040064-5/G; PackageReference: PW20; PackageDescription: 20-Pin Plastic Small Outline, Body 6.5 x 4.4 mm, 0.65 mm Pitch; Supplier 1: Digi-Key; Supplier Part Number 1: 296-33420-5-ND; Supplier 2: Farnell; Supplier Part Number 2: 1753260; Supplier 3: Newark; Supplier Part Number 3: 22M1159; Supplier 4: Mouser; Supplier Part Number 4: 595-MSP430F2101TPW; Comparators: Yes; Eco-Plan: Green (RoHS & no Sb/Br); GPIO: 16; Timers - 16-bit: 1; Watchdog: Yes; Mounting Technology: Surface Mount; Code_JEDEC: MO-153; ComponentLink1Description: Manufacturer URL; ComponentLink1URL: http://www.ti.com/; ComponentLink2Description: Datasheet; ComponentLink2URL: http://www.ti.com/general/docs/lit/getliterature.tsp?genericPartNumber=MSP430F2101&fileType=pdf; ComponentLink3Description: Package Specification; ComponentLink3URL: http://www.ti.com.cn/cn/lit/ml/mpds362/mpds362.pdf
footprint TI-PW20_N (SOP, 20-Leads, Body 6.5x4.4mm, Pitch 0.65mm, IPC Medium Density)
pins: 1 TEST (in) "Selects test mode for JTAG pins on Port1. The device protection fuse is connected to TEST.", 2 VCC (power) "Supply voltage", 3 P2.5/CA5 (io), 4 VSS (power) "Ground reference", 5 P2.7/XOUT/CA7 (io), 6 P2.6/XIN/CA6 (io), 7 ~{RST}/NMI (in), 8 P2.0/ACLK/CA2 (io), 9 P2.1/INCLK/CA3 (io), 10 P2.2/CAOUT/TA0/CA4 (io), 11 P2.3/TA1/CA0 (io), 12 P2.4/TA2/CA1 (io), 13 P1.0/TACLK (io), 14 P1.1/TA0 (io), 15 P1.2/TA1 (io), 16 P1.3/TA2 (io), 17 P1.4/SMCLK/TCK (io), 18 P1.5/TA0/TMS (io), 19 P1.6/TA1/TDI/TCLK (io), 20 P1.7/TA2/TDO/TDI (io)

## MSP430F2101TRGER
designator U?
16 MHz Mixed Signal Microcontroller with 1 KB Flash, 128 B SRAM and 16 GPIOs, -40 to 105 degC, 24-pin QFN (RGE), Green (RoHS & no Sb/Br); Manufacturer: Texas Instruments; PartNumber: MSP430F2101TRGER; ADC: Slope; Brown Out Reset: Yes; Flash(KB): 1; Frequency(MHz): 16; SRAM(B): 128; SubFamily: 2 Series, Extended Temp; DatasheetVersion: SLAS439F; PackageVersion: 4204104/G; PackageReference: RGE24-2450X2450TP; PackageDescription: 24-Pin Plastic Flat Pack, Body 4 x 4 mm, 0.5 mm Pitch; Supplier 1: Digi-Key; Supplier Part Number 1: 296-20751-2-ND; Supplier 2: Digi-Key; Supplier Part Number 2: 296-20751-1-ND; Supplier 3: Digi-Key; Supplier Part Number 3: 296-20751-6-ND; Supplier 4: Newark; Supplier Part Number 4: 22M1160; Supplier 5: Mouser; Supplier Part Number 5: 595-MSP430F2101TPWR; Comparators: Yes; Eco-Plan: Green (RoHS & no Sb/Br); GPIO: 16; Timers - 16-bit: 1; Watchdog: Yes; Mounting Technology: Surface Mount; Code_JEDEC: MO-220; ComponentLink1Description: Manufacturer URL; ComponentLink1URL: http://www.ti.com/; ComponentLink2Description: Datasheet; ComponentLink2URL: http://www.ti.com/general/docs/lit/getliterature.tsp?genericPartNumber=MSP430F2101&fileType=pdf; ComponentLink3Description: Package Specification; ComponentLink3URL: http://www.ti.com/litv/pdf/mpqf124f
footprint TI-RGE24-2450X2450TP_N (QFN, 24-Leads, Body 4x4mm, Pitch 0.5mm, Thermal Pad 2.45x2.45mm, IPC Medium Density)
pins: 1 NC "Not internally connected", 2 VSS (power) "Ground reference", 3 P2.7/XOUT/CA7 (io), 4 P2.6/XIN/CA6 (io), 5 ~{RST}/NMI (in), 6 P2.0/ACLK/CA2 (io), 7 P2.1/INCLK/CA3 (io), 8 P2.2/CAOUT/TA0/CA4 (io), 9 NC "Not internally connected", 10 P2.3/CA0/TA1 (io), 11 P2.4/CA1/TA2 (io), 12 NC "Not internally connected", 13 P1.0/TACLK (io), 14 P1.1/TA0 (io), 15 P1.2/TA1 (io), 16 P1.3/TA2 (io), 17 P1.4/SMCLK/TCK (io), 18 P1.5/TA0/TMS (io), 19 NC "Not internally connected", 20 P1.6/TA1/TDI/TCLK (io), 21 P1.7/TA2/TDO/TDI (io), 22 TEST (in) "Selects test mode for JTAG pins on Port1. The device protection fuse is connected to TEST.", 23 VCC (power) "Supply voltage", 24 P2.5/CA5 (io), 25 QFN PAD (power) "QFN package thermal pad. Connect to VSS."

## MSP430F2101TRGET
designator U?
16 MHz Mixed Signal Microcontroller with 1 KB Flash, 128 B SRAM and 16 GPIOs, -40 to 105 degC, 24-pin QFN (RGE), Green (RoHS & no Sb/Br); Manufacturer: Texas Instruments; PartNumber: MSP430F2101TRGET; ADC: Slope; Brown Out Reset: Yes; Flash(KB): 1; Frequency(MHz): 16; SRAM(B): 128; SubFamily: 2 Series, Extended Temp; DatasheetVersion: SLAS439F; PackageVersion: 4204104/G; PackageReference: RGE24-2450X2450TP; PackageDescription: 24-Pin Plastic Flat Pack, Body 4 x 4 mm, 0.5 mm Pitch; Supplier 1: Digi-Key; Supplier Part Number 1: MSP430F2101TRGER-ND; Supplier 2: Newark; Supplier Part Number 2: 22M1161; Supplier 3: Mouser; Supplier Part Number 3: 595-MSP430F2101TRGER; Comparators: Yes; Eco-Plan: Green (RoHS & no Sb/Br); GPIO: 16; Timers - 16-bit: 1; Watchdog: Yes; Mounting Technology: Surface Mount; Code_JEDEC: MO-220; ComponentLink1Description: Manufacturer URL; ComponentLink1URL: http://www.ti.com/; ComponentLink2Description: Datasheet; ComponentLink2URL: http://www.ti.com/general/docs/lit/getliterature.tsp?genericPartNumber=MSP430F2101&fileType=pdf; ComponentLink3Description: Package Specification; ComponentLink3URL: http://www.ti.com/litv/pdf/mpqf124f
footprint TI-RGE24-2450X2450TP_N (QFN, 24-Leads, Body 4x4mm, Pitch 0.5mm, Thermal Pad 2.45x2.45mm, IPC Medium Density)
pins: 1 NC "Not internally connected", 2 VSS (power) "Ground reference", 3 P2.7/XOUT/CA7 (io), 4 P2.6/XIN/CA6 (io), 5 ~{RST}/NMI (in), 6 P2.0/ACLK/CA2 (io), 7 P2.1/INCLK/CA3 (io), 8 P2.2/CAOUT/TA0/CA4 (io), 9 NC "Not internally connected", 10 P2.3/CA0/TA1 (io), 11 P2.4/CA1/TA2 (io), 12 NC "Not internally connected", 13 P1.0/TACLK (io), 14 P1.1/TA0 (io), 15 P1.2/TA1 (io), 16 P1.3/TA2 (io), 17 P1.4/SMCLK/TCK (io), 18 P1.5/TA0/TMS (io), 19 NC "Not internally connected", 20 P1.6/TA1/TDI/TCLK (io), 21 P1.7/TA2/TDO/TDI (io), 22 TEST (in) "Selects test mode for JTAG pins on Port1. The device protection fuse is connected to TEST.", 23 VCC (power) "Supply voltage", 24 P2.5/CA5 (io), 25 QFN PAD (power) "QFN package thermal pad. Connect to VSS."

## MSP430F2111IDGV
designator U?
16 MHz Mixed Signal Microcontroller with 2 KB Flash, 128 B SRAM and 16 GPIOs, -40 to 85 degC, 20-pin SOP (DGV), Green (RoHS & no Sb/Br); Manufacturer: Texas Instruments; PartNumber: MSP430F2111IDGV; ADC: Slope; Brown Out Reset: Yes; Flash(KB): 2; Frequency(MHz): 16; SRAM(B): 128; SubFamily: 2 Series, Extended Temp; Timers - 16-bit: 1; DatasheetVersion: SLAS439F; PackageVersion: 4073251/E; PackageReference: DGV20; PackageDescription: 20-Pin Plastic Small Outline, Body 4.4 x 5 mm, Pitch 0.4 mm; Supplier 1: Digi-Key; Supplier Part Number 1: 296-20752-2-ND; Supplier 2: Digi-Key; Supplier Part Number 2: 296-20752-1-ND; Supplier 3: Digi-Key; Supplier Part Number 3: 296-20752-6-ND; Supplier 4: Farnell; Supplier Part Number 4: 1753261; Supplier 5: Newark; Supplier Part Number 5: 93R5524; Supplier 6: Mouser; Supplier Part Number 6: 595-MSP430F2101TRGET; Comparators: Yes; Eco-Plan: Green (RoHS & no Sb/Br); GPIO: 16; Watchdog: Yes; Mounting Technology: Surface Mount; Code_JEDEC: MO-194; ComponentLink1Description: Manufacturer URL; ComponentLink1URL: http://www.ti.com/; ComponentLink2Description: Datasheet; ComponentLink2URL: http://www.ti.com/general/docs/lit/getliterature.tsp?genericPartNumber=MSP430F2111&fileType=pdf; ComponentLink3Description: Package Specification; ComponentLink3URL: http://www.ti.com/lit/ml/mpds006c/mpds006c.pdf
footprint TI-DGV20_N (SOP, 20-Leads, Body 5x4.4mm, Pitch 0.4mm, IPC Medium Density)
pins: 1 TEST (in) "Selects test mode for JTAG pins on Port1. The device protection fuse is connected to TEST.", 2 VCC (power) "Supply voltage", 3 P2.5/CA5 (io), 4 VSS (power) "Ground reference", 5 P2.7/XOUT/CA7 (io), 6 P2.6/XIN/CA6 (io), 7 ~{RST}/NMI (in), 8 P2.0/ACLK/CA2 (io), 9 P2.1/INCLK/CA3 (io), 10 P2.2/CAOUT/TA0/CA4 (io), 11 P2.3/TA1/CA0 (io), 12 P2.4/TA2/CA1 (io), 13 P1.0/TACLK (io), 14 P1.1/TA0 (io), 15 P1.2/TA1 (io), 16 P1.3/TA2 (io), 17 P1.4/SMCLK/TCK (io), 18 P1.5/TA0/TMS (io), 19 P1.6/TA1/TDI/TCLK (io), 20 P1.7/TA2/TDO/TDI (io)

## MSP430F2111IDGVR
designator U?
16 MHz Mixed Signal Microcontroller with 2 KB Flash, 128 B SRAM and 16 GPIOs, -40 to 85 degC, 20-pin SOP (DGV), Green (RoHS & no Sb/Br); Manufacturer: Texas Instruments; PartNumber: MSP430F2111IDGVR; ADC: Slope; Brown Out Reset: Yes; Flash(KB): 2; Frequency(MHz): 16; SRAM(B): 128; SubFamily: 2 Series, Extended Temp; Timers - 16-bit: 1; DatasheetVersion: SLAS439F; PackageVersion: 4073251/E; PackageReference: DGV20; PackageDescription: 20-Pin Plastic Small Outline, Body 4.4 x 5 mm, Pitch 0.4 mm; Supplier 1: Digi-Key; Supplier Part Number 1: 296-18108-ND; Supplier 2: Farnell; Supplier Part Number 2: 1753262; Supplier 3: Newark; Supplier Part Number 3: 93R5525; Supplier 4: Mouser; Supplier Part Number 4: 595-MSP430F2111IDGV; Comparators: Yes; Eco-Plan: Green (RoHS & no Sb/Br); GPIO: 16; Watchdog: Yes; Mounting Technology: Surface Mount; Code_JEDEC: MO-194; ComponentLink1Description: Manufacturer URL; ComponentLink1URL: http://www.ti.com/; ComponentLink2Description: Datasheet; ComponentLink2URL: http://www.ti.com/general/docs/lit/getliterature.tsp?genericPartNumber=MSP430F2111&fileType=pdf; ComponentLink3Description: Package Specification; ComponentLink3URL: http://www.ti.com/lit/ml/mpds006c/mpds006c.pdf
footprint TI-DGV20_N (SOP, 20-Leads, Body 5x4.4mm, Pitch 0.4mm, IPC Medium Density)
pins: 1 TEST (in) "Selects test mode for JTAG pins on Port1. The device protection fuse is connected to TEST.", 2 VCC (power) "Supply voltage", 3 P2.5/CA5 (io), 4 VSS (power) "Ground reference", 5 P2.7/XOUT/CA7 (io), 6 P2.6/XIN/CA6 (io), 7 ~{RST}/NMI (in), 8 P2.0/ACLK/CA2 (io), 9 P2.1/INCLK/CA3 (io), 10 P2.2/CAOUT/TA0/CA4 (io), 11 P2.3/TA1/CA0 (io), 12 P2.4/TA2/CA1 (io), 13 P1.0/TACLK (io), 14 P1.1/TA0 (io), 15 P1.2/TA1 (io), 16 P1.3/TA2 (io), 17 P1.4/SMCLK/TCK (io), 18 P1.5/TA0/TMS (io), 19 P1.6/TA1/TDI/TCLK (io), 20 P1.7/TA2/TDO/TDI (io)

## MSP430F2111IDW
designator U?
16 MHz Mixed Signal Microcontroller with 2 KB Flash, 128 B SRAM and 16 GPIOs, -40 to 85 degC, 20-pin SOIC (DW), Green (RoHS & no Sb/Br); Manufacturer: Texas Instruments; PartNumber: MSP430F2111IDW; ADC: Slope; Brown Out Reset: Yes; Flash(KB): 2; Frequency(MHz): 16; SRAM(B): 128; SubFamily: 2 Series, Extended Temp; Timers - 16-bit: 1; DatasheetVersion: SLAS439F; PackageVersion: 4040000-4/G; PackageReference: DW20; PackageDescription: 20-Pin Plastic Small Outline, Body 12.8 x 7.5 mm, Pitch 1.27 mm; Supplier 1: Digi-Key; Supplier Part Number 1: MSP430F2111IDGVR-ND; Supplier 2: Newark; Supplier Part Number 2: 43K4014; Supplier 3: Mouser; Supplier Part Number 3: 595-MSP430F2111IDGVR; Comparators: Yes; Eco-Plan: Green (RoHS & no Sb/Br); GPIO: 16; Watchdog: Yes; Mounting Technology: Surface Mount; Code_JEDEC: MO-013; ComponentLink1Description: Manufacturer URL; ComponentLink1URL: http://www.ti.com/; ComponentLink2Description: Datasheet; ComponentLink2URL: http://www.ti.com/general/docs/lit/getliterature.tsp?genericPartNumber=MSP430F2111&fileType=pdf; ComponentLink3Description: Package Specification; ComponentLink3URL: http://www.ti.com/lit/ml/mpds173a/mpds173a.pdf
footprint TI-DW20_N (SOIC, 20-Leads, Body 12.8x7.5mm, Pitch 1.27mm, IPC Medium Density)
pins: 1 TEST (in) "Selects test mode for JTAG pins on Port1. The device protection fuse is connected to TEST.", 2 VCC (power) "Supply voltage", 3 P2.5/CA5 (io), 4 VSS (power) "Ground reference", 5 P2.7/XOUT/CA7 (io), 6 P2.6/XIN/CA6 (io), 7 ~{RST}/NMI (in), 8 P2.0/ACLK/CA2 (io), 9 P2.1/INCLK/CA3 (io), 10 P2.2/CAOUT/TA0/CA4 (io), 11 P2.3/TA1/CA0 (io), 12 P2.4/TA2/CA1 (io), 13 P1.0/TACLK (io), 14 P1.1/TA0 (io), 15 P1.2/TA1 (io), 16 P1.3/TA2 (io), 17 P1.4/SMCLK/TCK (io), 18 P1.5/TA0/TMS (io), 19 P1.6/TA1/TDI/TCLK (io), 20 P1.7/TA2/TDO/TDI (io)

## MSP430F2111IDWR
designator U?
16 MHz Mixed Signal Microcontroller with 2 KB Flash, 128 B SRAM and 16 GPIOs, -40 to 85 degC, 20-pin SOIC (DW), Green (RoHS & no Sb/Br); Manufacturer: Texas Instruments; PartNumber: MSP430F2111IDWR; ADC: Slope; Brown Out Reset: Yes; Flash(KB): 2; Frequency(MHz): 16; SRAM(B): 128; SubFamily: 2 Series, Extended Temp; Timers - 16-bit: 1; DatasheetVersion: SLAS439F; PackageVersion: 4040000-4/G; PackageReference: DW20; PackageDescription: 20-Pin Plastic Small Outline, Body 12.8 x 7.5 mm, Pitch 1.27 mm; Supplier 1: Digi-Key; Supplier Part Number 1: 296-26195-5-ND; Supplier 2: Farnell; Supplier Part Number 2: 1753263; Supplier 3: Newark; Supplier Part Number 3: 93R5526; Supplier 4: Newark; Supplier Part Number 4: 43K4015; Supplier 5: Mouser; Supplier Part Number 5: 595-MSP430F2111IDW; Comparators: Yes; Eco-Plan: Green (RoHS & no Sb/Br); GPIO: 16; Watchdog: Yes; Mounting Technology: Surface Mount; Code_JEDEC: MO-013; ComponentLink1Description: Manufacturer URL; ComponentLink1URL: http://www.ti.com/; ComponentLink2Description: Datasheet; ComponentLink2URL: http://www.ti.com/general/docs/lit/getliterature.tsp?genericPartNumber=MSP430F2111&fileType=pdf; ComponentLink3Description: Package Specification; ComponentLink3URL: http://www.ti.com/lit/ml/mpds173a/mpds173a.pdf
footprint TI-DW20_N (SOIC, 20-Leads, Body 12.8x7.5mm, Pitch 1.27mm, IPC Medium Density)
pins: 1 TEST (in) "Selects test mode for JTAG pins on Port1. The device protection fuse is connected to TEST.", 2 VCC (power) "Supply voltage", 3 P2.5/CA5 (io), 4 VSS (power) "Ground reference", 5 P2.7/XOUT/CA7 (io), 6 P2.6/XIN/CA6 (io), 7 ~{RST}/NMI (in), 8 P2.0/ACLK/CA2 (io), 9 P2.1/INCLK/CA3 (io), 10 P2.2/CAOUT/TA0/CA4 (io), 11 P2.3/TA1/CA0 (io), 12 P2.4/TA2/CA1 (io), 13 P1.0/TACLK (io), 14 P1.1/TA0 (io), 15 P1.2/TA1 (io), 16 P1.3/TA2 (io), 17 P1.4/SMCLK/TCK (io), 18 P1.5/TA0/TMS (io), 19 P1.6/TA1/TDI/TCLK (io), 20 P1.7/TA2/TDO/TDI (io)

## MSP430F2111IPW
designator U?
16 MHz Mixed Signal Microcontroller with 2 KB Flash, 128 B SRAM and 16 GPIOs, -40 to 85 degC, 20-pin SOP (PW), Green (RoHS & no Sb/Br); Manufacturer: Texas Instruments; PartNumber: MSP430F2111IPW; ADC: Slope; Brown Out Reset: Yes; Flash(KB): 2; Frequency(MHz): 16; SRAM(B): 128; SubFamily: 2 Series, Extended Temp; Timers - 16-bit: 1; DatasheetVersion: SLAS439F; PackageVersion: 4040064-5/G; PackageReference: PW20; PackageDescription: 20-Pin Plastic Small Outline, Body 6.5 x 4.4 mm, 0.65 mm Pitch; Supplier 1: Digi-Key; Supplier Part Number 1: 296-18109-2-ND; Supplier 2: Digi-Key; Supplier Part Number 2: 296-18109-1-ND; Supplier 3: Digi-Key; Supplier Part Number 3: 296-18109-6-ND; Supplier 4: Newark; Supplier Part Number 4: 43K4016; Supplier 5: Mouser; Supplier Part Number 5: 595-MSP430F2111IDWR; Comparators: Yes; Eco-Plan: Green (RoHS & no Sb/Br); GPIO: 16; Watchdog: Yes; Mounting Technology: Surface Mount; Code_JEDEC: MO-153; ComponentLink1Description: Manufacturer URL; ComponentLink1URL: http://www.ti.com/; ComponentLink2Description: Datasheet; ComponentLink2URL: http://www.ti.com/general/docs/lit/getliterature.tsp?genericPartNumber=MSP430F2111&fileType=pdf; ComponentLink3Description: Package Specification; ComponentLink3URL: http://www.ti.com.cn/cn/lit/ml/mpds362/mpds362.pdf
footprint TI-PW20_N (SOP, 20-Leads, Body 6.5x4.4mm, Pitch 0.65mm, IPC Medium Density)
pins: 1 TEST (in) "Selects test mode for JTAG pins on Port1. The device protection fuse is connected to TEST.", 2 VCC (power) "Supply voltage.", 3 P2.5/CA5 (io), 4 VSS (power) "Ground reference.", 5 P2.7/XOUT/CA7 (io), 6 P2.6/XIN/P2.6/CA6 (io), 7 ~{RST}/NMI (in), 8 P2.0/ACLK/CA2 (io), 9 P2.1/INCLK/CA3 (io), 10 P2.2/CAOUT/TA0/CA4 (io), 11 P2.3/TA1/CA0 (io), 12 P2.4/TA2/CA1 (io), 13 P1.0/TACLK (io), 14 P1.1/TA0 (io), 15 P1.2/TA1 (io), 16 P1.3/TA2 (io), 17 P1.4/SMCLK/TCK (io), 18 P1.5/TA0/TMS (io), 19 P1.6/TA1/TDI/TCLK (io), 20 P1.7/TA2/TDO/TDI (io)

## MSP430F2111IPWR
designator U?
16 MHz Mixed Signal Microcontroller with 2 KB Flash, 128 B SRAM and 16 GPIOs, -40 to 85 degC, 20-pin SOP (PW), Green (RoHS & no Sb/Br); Manufacturer: Texas Instruments; PartNumber: MSP430F2111IPWR; ADC: Slope; Brown Out Reset: Yes; Flash(KB): 2; Frequency(MHz): 16; SRAM(B): 128; SubFamily: 2 Series, Extended Temp; Timers - 16-bit: 1; DatasheetVersion: SLAS439F; PackageVersion: 4040064-5/G; PackageReference: PW20; PackageDescription: 20-Pin Plastic Small Outline, Body 6.5 x 4.4 mm, 0.65 mm Pitch; Supplier 1: Digi-Key; Supplier Part Number 1: 296-26196-5-ND; Supplier 2: Farnell; Supplier Part Number 2: 1649409; Supplier 3: Newark; Supplier Part Number 3: 43K4017; Supplier 4: Mouser; Supplier Part Number 4: 595-MSP430F2111IPW; Comparators: Yes; Eco-Plan: Green (RoHS & no Sb/Br); GPIO: 16; Watchdog: Yes; Mounting Technology: Surface Mount; Code_JEDEC: MO-153; ComponentLink1Description: Manufacturer URL; ComponentLink1URL: http://www.ti.com/; ComponentLink2Description: Datasheet; ComponentLink2URL: http://www.ti.com/general/docs/lit/getliterature.tsp?genericPartNumber=MSP430F2111&fileType=pdf; ComponentLink3Description: Package Specification; ComponentLink3URL: http://www.ti.com.cn/cn/lit/ml/mpds362/mpds362.pdf
footprint TI-PW20_N (SOP, 20-Leads, Body 6.5x4.4mm, Pitch 0.65mm, IPC Medium Density)
pins: 1 TEST (in) "Selects test mode for JTAG pins on Port1. The device protection fuse is connected to TEST.", 2 VCC (power) "Supply voltage.", 3 P2.5/CA5 (io), 4 VSS (power) "Ground reference.", 5 P2.7/XOUT/CA7 (io), 6 P2.6/XIN/P2.6/CA6 (io), 7 ~{RST}/NMI (in), 8 P2.0/ACLK/CA2 (io), 9 P2.1/INCLK/CA3 (io), 10 P2.2/CAOUT/TA0/CA4 (io), 11 P2.3/TA1/CA0 (io), 12 P2.4/TA2/CA1 (io), 13 P1.0/TACLK (io), 14 P1.1/TA0 (io), 15 P1.2/TA1 (io), 16 P1.3/TA2 (io), 17 P1.4/SMCLK/TCK (io), 18 P1.5/TA0/TMS (io), 19 P1.6/TA1/TDI/TCLK (io), 20 P1.7/TA2/TDO/TDI (io)

## MSP430F2111IRGER
designator U?
16 MHz Mixed Signal Microcontroller with 2 KB Flash, 128 B SRAM and 16 GPIOs, -40 to 85 degC, 24-pin QFN (RGE), Green (RoHS & no Sb/Br); Manufacturer: Texas Instruments; PartNumber: MSP430F2111IRGER; ADC: Slope; Brown Out Reset: Yes; Flash(KB): 2; Frequency(MHz): 16; SRAM(B): 128; SubFamily: 2 Series, Extended Temp; Timers - 16-bit: 1; DatasheetVersion: SLAS439F; PackageVersion: 4204104/G; PackageReference: RGE24-2450X2450TP; PackageDescription: 24-Pin Plastic Flat Pack, Body 4 x 4 mm, 0.5 mm Pitch; Supplier 1: Digi-Key; Supplier Part Number 1: 296-18110-2-ND; Supplier 2: Digi-Key; Supplier Part Number 2: 296-18110-1-ND; Supplier 3: Digi-Key; Supplier Part Number 3: 296-18110-6-ND; Supplier 4: Newark; Supplier Part Number 4: 43K4018; Supplier 5: Mouser; Supplier Part Number 5: 595-MSP430F2111IPWR; Comparators: Yes; Eco-Plan: Green (RoHS & no Sb/Br); GPIO: 16; Watchdog: Yes; Mounting Technology: Surface Mount; Code_JEDEC: MO-220; ComponentLink1Description: Manufacturer URL; ComponentLink1URL: http://www.ti.com/; ComponentLink2Description: Datasheet; ComponentLink2URL: http://www.ti.com/general/docs/lit/getliterature.tsp?genericPartNumber=MSP430F2111&fileType=pdf; ComponentLink3Description: Package Specification; ComponentLink3URL: http://www.ti.com/litv/pdf/mpqf124f
footprint TI-RGE24-2450X2450TP_N (QFN, 24-Leads, Body 4x4mm, Pitch 0.5mm, Thermal Pad 2.45x2.45mm, IPC Medium Density)
pins: 1 NC "Not internally connected", 2 VSS (power) "Ground reference", 3 P2.7/XOUT/CA7 (io), 4 P2.6/XIN/CA6 (io), 5 ~{RST}/NMI (in), 6 P2.0/ACLK/CA2 (io), 7 P2.1/INCLK/CA3 (io), 8 P2.2/CAOUT/TA0/CA4 (io), 9 NC "Not internally connected", 10 P2.3/CA0/TA1 (io), 11 P2.4/CA1/TA2 (io), 12 NC "Not internally connected", 13 P1.0/TACLK (io), 14 P1.1/TA0 (io), 15 P1.2/TA1 (io), 16 P1.3/TA2 (io), 17 P1.4/SMCLK/TCK (io), 18 P1.5/TA0/TMS (io), 19 NC "Not internally connected", 20 P1.6/TA1/TDI/TCLK (io), 21 P1.7/TA2/TDO/TDI (io), 22 TEST (in) "Selects test mode for JTAG pins on Port1. The device protection fuse is connected to TEST.", 23 VCC (power) "Supply voltage", 24 P2.5/CA5 (io), 25 QFN PAD (power) "QFN package thermal pad. Connect to VSS."